# EAGLE library part 2X5 (library headers(.1in)(samtec))
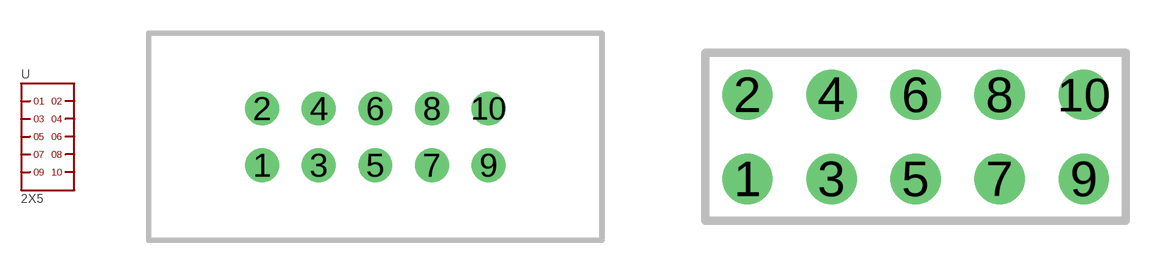
[diagram p4: symbol with the pads of TST-105-01-X-D; footprints TST-105-01-X-D, TSW-105-XXX-D-XXX]

Designator prefix -

## 2X5.TST.D  [TST-105-01-X-D]
1  1
2  2
3  3
4  4
5  5
6  6
7  7
8  8
9  9
10  10

## 2X5.TSW.D  [TSW-105-XXX-D-XXX]
Pads as for TST-105-01-X-D

## Footprint TST-105-01-X-D (pad centres in mm)
.100 inch (2,54mm) Shrouded Terminal Strip for Cable Assembly
drill 1.016 pad 1.524: 1 -5.08,-1.27; 2 -5.08,1.27; 3 -2.54,-1.27; 4 -2.54,1.27; 5 0,-1.27; 6 0,1.27; 7 2.54,-1.27; 8 2.54,1.27; 9 5.08,-1.27; 10 5.08,1.27

## Footprint TSW-105-XXX-D-XXX (pad centres in mm)
drill 1.016 pad 1.524: 1 -5.08,-1.27; 2 -5.08,1.27; 3 -2.54,-1.27; 4 -2.54,1.27; 5 0,-1.27; 6 0,1.27; 7 2.54,-1.27; 8 2.54,1.27; 9 5.08,-1.27; 10 5.08,1.27